# Altium footprint library Molex 6-pin.PcbLib: 1 footprints
Each footprint in its own frame and in the unit in brackets; x right, y up, seen from the top. Pads: shape width x height; smd on the part's side, far side on the other; paste and mask are expansions set on the pad; w line width, h text height; cw(c..) or ccw(c..) is an arc to the next point about the centre after c.
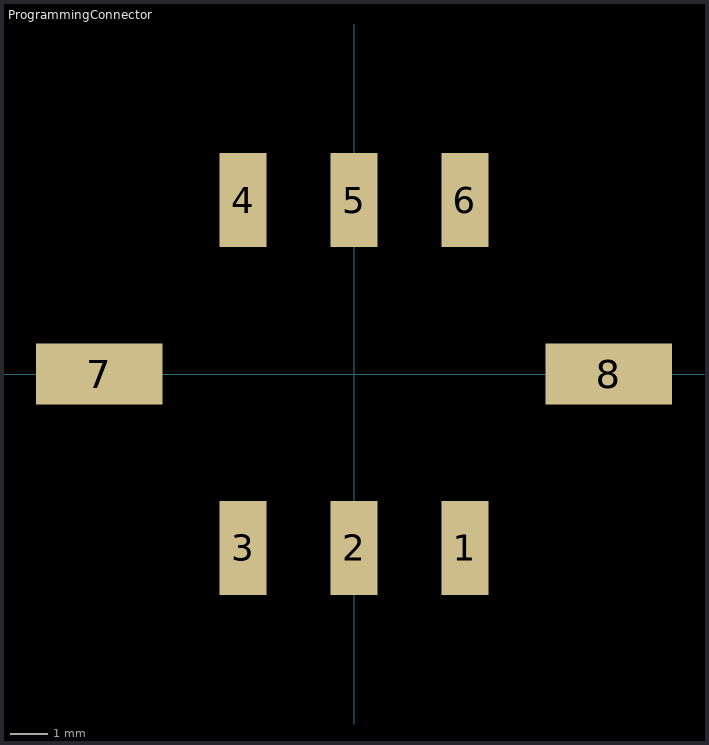
[diagram p0: the footprint, top view; thin cyan lines are the x and y axes]

## ProgrammingConnector [mm] "Molex 6-pin, Vertical Angle, Tin Plated"
pads (8):
  rect 1.27x2.54 smd: 1(3,-4.7) 2(0,-4.7) 3(-3,-4.7) 4(-3,4.7) 5(0,4.7) 6(3,4.7)
  rect 3.43x1.65 smd: 7(-6.885,0) 8(6.885,0)
3D body "Assem1.STEP": height 17.44, standoff -0.12, extent -8.325,-5.588 8.325,6.779